# Altium footprint library Footprints.PcbLib: 3 footprints
Each footprint in its own frame and in the unit in brackets; x right, y up, seen from the top. Pads: shape width x height; smd on the part's side, far side on the other; paste and mask are expansions set on the pad; w line width, h text height; cw(c..) or ccw(c..) is an arc to the next point about the centre after c.
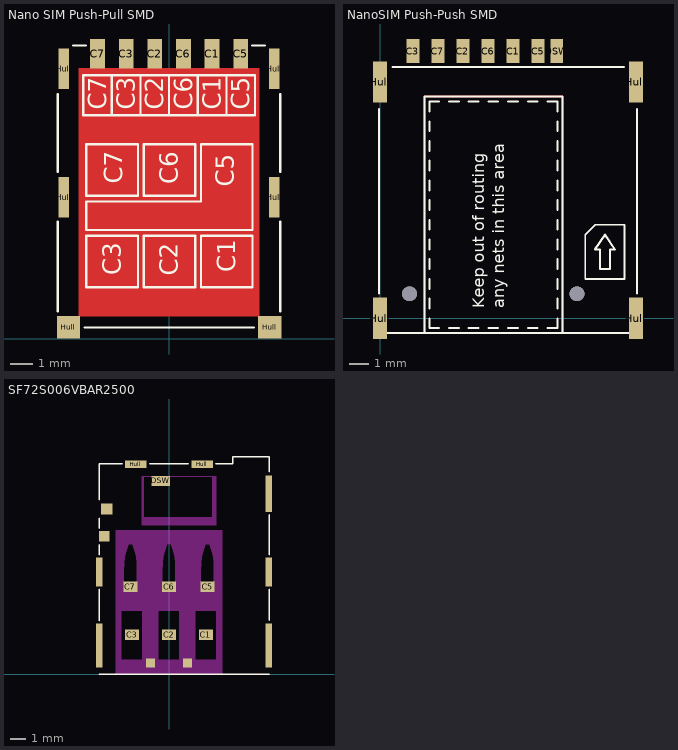
[diagram p0: the footprints below, top view; thin cyan lines are the x and y axes]

## Nano SIM Push-Pull SMD [mm] "Nano SIM Push-Pull SMD"
pads (12):
  rect 0.65x1.3 smd: C1(1.905,12.64) C2(-0.635,12.64) C3(-1.905,12.64) C5(3.175,12.64) C6(0.635,12.64) C7(-3.175,12.64)
  rect 0.48x1.8 smd: Hull(-4.67,6.28) Hull(4.66,6.28)
  rect 0.48x1.8 smd mask+0.102: Hull(-4.67,11.97) Hull(4.66,11.97)
  rect 1.03x1 smd: Hull(-4.465,0.5) Hull(4.465,0.5)
Top Layer:
  pour cut-out: -4,12 4,12 4,1 -4,1
Top Overlay:
  lines w0.1: -4.94,1.2 -4.94,5.2 ; -4.94,7.4 -4.94,10.85 ; -4.25,13 -3.7,13 ; -3.75,0.5 3.75,0.5 ; -2.54,9.906 -2.54,11.684 ; -1.27,9.906 -1.27,11.684 ; 0,9.906 0,11.684 ; 1.27,9.906 1.27,11.684 ; 2.54,9.906 2.54,11.684 ; 3.69,13 4.24,13 ; 4.93,1.2 4.93,5.2 ; 4.93,7.4 4.93,10.85 ; 4.93,5.2 4.93,5.2 ; -3.81,9.906 3.81,9.906 3.81,11.684 -3.81,11.684 -3.81,9.906 ; -3.67,2.276 -1.384,2.276 -1.384,4.562 -3.67,4.562 -3.67,2.276 ; -3.67,4.816 -3.67,6.086 1.41,6.086 1.41,8.626 3.696,8.626 3.696,4.816 -3.67,4.816 ; -3.67,6.34 -3.67,8.626 -1.384,8.626 -1.384,6.34 -3.67,6.34 ; -1.13,2.276 1.156,2.276 1.156,4.562 -1.13,4.562 -1.13,2.276 ; -1.13,6.34 1.156,6.34 1.156,8.626 -1.13,8.626 -1.13,6.34 ; 1.41,2.276 1.41,4.562 3.696,4.562 3.696,2.276 1.41,2.276
  text "C7" at -2.08,6.87 h0.8
  text "C6" at 0.378,6.858 h0.8
  text "C7" at -2.794,10.16 h0.8
  text "C3" at -1.524,10.16 h0.8
  text "C2" at -0.254,10.16 h0.8
  text "C6" at 1.016,10.16 h0.8
  text "C1" at 2.286,10.16 h0.8
  text "C5" at 3.556,10.16 h0.8
  text "C5" at 2.86,6.73 h0.8
  text "C1" at 2.93,2.95 h0.8
  text "C2" at 0.378,2.794 h0.8
  text "C3" at -2.14,2.81 h0.8

## NanoSIM Push-Push SMD [mm] "NanoSIM Push-Push SMD"
height 1.25
pads (11):
  rect 0.65x1.23 smd: C1(6.75,13.565) C2(4.21,13.565) C3(1.67,13.565) C5(8.02,13.565) C6(5.48,13.565) C7(2.94,13.565) DSW(8.97,13.565)
  rect 0.7x2.1 smd mask+0: Hull(0,0)
  rect 0.7x2.1 smd: Hull(0,12) Hull(12.99,0) Hull(12.99,12)
via 10,1.25 diameter 0.75 hole 0.75
via 1.5,1.25 diameter 0.75 hole 0.75
Top Layer:
  lines w0.1: 2.25,-0.75 2.25,11.25 9.25,11.25 9.25,-0.75 2.25,-0.75
Top Overlay:
  lines w0.1: -0.05,-0.75 13.05,-0.75 ; -0.05,1.25 -0.05,10.625 ; 0.625,12.75 12.375,12.75 ; 2.5,0 2.5,-0.5 3,-0.5 ; 2.5,0.5 2.5,1 ; 2.5,1.5 2.5,2 ; 2.5,2.5 2.5,3 ; 2.5,3.5 2.5,4 ; 2.5,4.5 2.5,5 ; 2.5,5.5 2.5,6 ; 2.5,6.5 2.5,7 ; 2.5,7.5 2.5,8 ; 2.5,8.5 2.5,9 ; 2.5,9.5 2.5,10 ; 2.5,10.5 2.5,11 2.75,11 3,11 ; 3.5,-0.5 4,-0.5 ; 3.5,11 4,11 ; 4.5,-0.5 5,-0.5 ; 4.5,11 5,11 ; 5.5,-0.5 6,-0.5 ; 5.5,11 6,11 ; 6.5,-0.5 7,-0.5 ; 6.5,11 7,11 ; 7.5,-0.5 8,-0.5 ; 7.5,11 8,11 ; 8.5,-0.5 9,-0.5 9,0 ; 8.5,11 9,11 9,10.5 ; 9,0.5 9,1 ; 9,1.5 9,2 ; 9,2.5 9,3 ; 9,3.5 9,4 ; 9,4.5 9,5 ; 9,5.5 9,6 ; 9,6.5 9,7 ; 9,7.5 9,8 ; 9,8.5 9,9 ; 9,9.5 9,10 ; 13.05,1.25 13.05,10.625 ; 2.25,-0.75 9.25,-0.75 9.25,11.25 2.25,11.25 2.25,-0.75 ; 10.417,2 10.417,4.25 10.917,4.75 12.417,4.75 12.417,2 10.417,2 ; 10.917,3.5 11.417,4.25 11.917,3.5 11.667,3.5 11.667,2.5 11.167,2.5 11.167,3.5 10.917,3.5
  text "Keep out of routing / any nets in this area" at 6.5,0.5 h1

## SF72S006VBAR2500 [mm] "NANO SIM PUSH-PUSH CARD DETECT SMD SS72 JAE"
height 1.25
pads (18):
  rect 0.9x0.7 smd: C1(2.44,2.6) C2(0,2.6) C3(-2.44,2.6) C5(2.54,5.77) C6(0,5.77) C7(-2.54,5.77)
  rect 0.7x0.7 smd: CSW(-4.27,9.1)
  rect 1.2x0.65 smd: DSW(-0.55,12.75)
  rect 0.45x2.9 smd: Hull(-4.595,1.9) Hull(6.58,1.9)
  rect 0.45x1.9 smd: Hull(-4.595,6.75) Hull(6.58,6.75)
  rect 0.75x0.7 smd: Hull(-4.095,10.9)
  rect 1.4x0.5 smd: Hull(-2.2,13.85) Hull(2.2,13.85)
  rect 0.6x0.6 smd: Hull(-1.22,0.75) Hull(1.22,0.75)
  rect 0.45x2.4 smd: Hull(6.58,11.9)
Top Overlay:
  lines w0.1: -4.595,0 6.605,0 ; -4.595,3.525 -4.595,5.62 ; -4.595,7.9 -4.595,8.555 ; -4.595,9.645 -4.595,10.3 ; -4.595,11.51 -4.595,13.9 -3.1,13.9 ; -1.275,13.9 1.275,13.9 ; 3.1,13.9 4.205,13.9 4.205,14.35 6.605,14.35 6.605,13.35 ; 6.605,3.565 6.605,5.6 ; 6.605,7.9 6.605,10.51
Keep-Out Layer:
  rectangle: -1.775,9.85 3.125,10.35
  rectangle: 2.875,10.35 3.125,13.05
  rectangle: -1.775,10.35 -1.675,13.05
  lines w0.01: -1.675,13.05 -1.675,10.35 2.875,10.35 2.875,13.05 3.125,13.05 ; 0,9.85 -1.775,9.85 ; 0,13.05 -1.775,13.05 ; -1.775,9.85 -1.775,13.05 ; -1.775,9.85 3.125,9.85 3.125,13.05 ; -1.775,13.05 3.125,13.05
Keep-Out Layer:
  rectangle: -3.475,0.975 -3.165,4.225
  rectangle: -1.715,0.975 -0.725,4.225
  rectangle: 0.725,0.975 1.715,4.225
  rectangle: 3.165,0.975 3.525,4.225
  rectangle: -3.475,0 3.525,0.975
  rectangle: -3.475,4.225 3.525,5.425
  rectangle: -3.475,8.6 3.525,9.5
  rectangle: -3.475,5.42 -2.99,8.6
  rectangle: 2.99,5.42 3.525,8.6
  rectangle: 0.45,5.42 2.09,8.6
  rectangle: -2.09,5.42 -0.45,8.6
  region: -2.99,8.6 -2.69,8.6 -2.77,8.4 -2.86,8.1 -2.92,7.85 -2.96,7.6 -2.98,7.4 -2.99,7.1
  region: -2.09,8.6 -2.39,8.6 -2.31,8.4 -2.22,8.1 -2.16,7.85 -2.12,7.6 -2.1,7.4 -2.09,7.1
  region: 0.45,8.6 0.15,8.6 0.23,8.4 0.32,8.1 0.38,7.85 0.42,7.6 0.44,7.4 0.45,7.1
  region: -0.45,8.6 -0.15,8.6 -0.23,8.4 -0.32,8.1 -0.38,7.85 -0.42,7.6 -0.44,7.4 -0.45,7.1
  region: 2.09,8.6 2.39,8.6 2.31,8.4 2.22,8.1 2.16,7.85 2.12,7.6 2.1,7.4 2.09,7.1
  region: 2.99,8.6 2.69,8.6 2.77,8.4 2.86,8.1 2.92,7.85 2.96,7.6 2.98,7.4 2.99,7.1
  lines w0.01: -2.99,7.086 cw(c0.911,7.1) -2.69,8.6 -2.39,8.6 cw(c-5.991,7.1) -2.09,7.086 ; -2.99,7.1 -2.99,5.42 -2.09,5.42 -2.09,7.3 ; -0.45,7.086 cw(c3.451,7.1) -0.15,8.6 0.15,8.6 cw(c-3.451,7.1) 0.45,7.086 ; -0.45,7.1 -0.45,5.42 0.45,5.42 0.45,7.3 ; 2.09,7.086 cw(c5.991,7.1) 2.39,8.6 2.69,8.6 cw(c-0.911,7.1) 2.99,7.086 ; 2.09,8.6 2.09,7.1 2.09,5.42 2.99,5.42 2.99,7.3 ; -3.475,0 -3.475,9.5 3.525,9.5 3.525,0 -3.475,0 ; -3.165,0.975 -1.715,0.975 -1.715,4.225 -3.165,4.225 -3.165,0.975 ; -0.725,0.975 -0.725,4.225 0.725,4.225 0.725,0.975 -0.725,0.975 ; 1.715,0.975 3.165,0.975 3.165,4.225 1.715,4.225 1.715,0.975
Mechanical 1:
  lines w0.01: -2.74,5.77 -2.34,5.77 ; -2.64,2.6 -2.24,2.6 ; -2.54,5.57 -2.54,5.97 ; -2.44,2.4 -2.44,2.8 ; -0.2,2.6 0.2,2.6 ; -0.2,5.77 0.2,5.77 ; 0,2.4 0,2.8 ; 0,5.57 0,5.97 ; 2.24,2.6 2.64,2.6 ; 2.34,5.77 2.74,5.77 ; 2.44,2.4 2.44,2.8 ; 2.54,5.57 2.54,5.97 ; 3.525,0 -3.475,0 6.605,0